# Altium footprint library PcbLib.PcbLib: 67 footprints (part 1 of 5)
Each footprint in its own frame and in the unit in brackets; x right, y up, seen from the top. Pads: shape width x height; smd on the part's side, far side on the other; paste and mask are expansions set on the pad; w line width, h text height; cw(c..) or ccw(c..) is an arc to the next point about the centre after c.
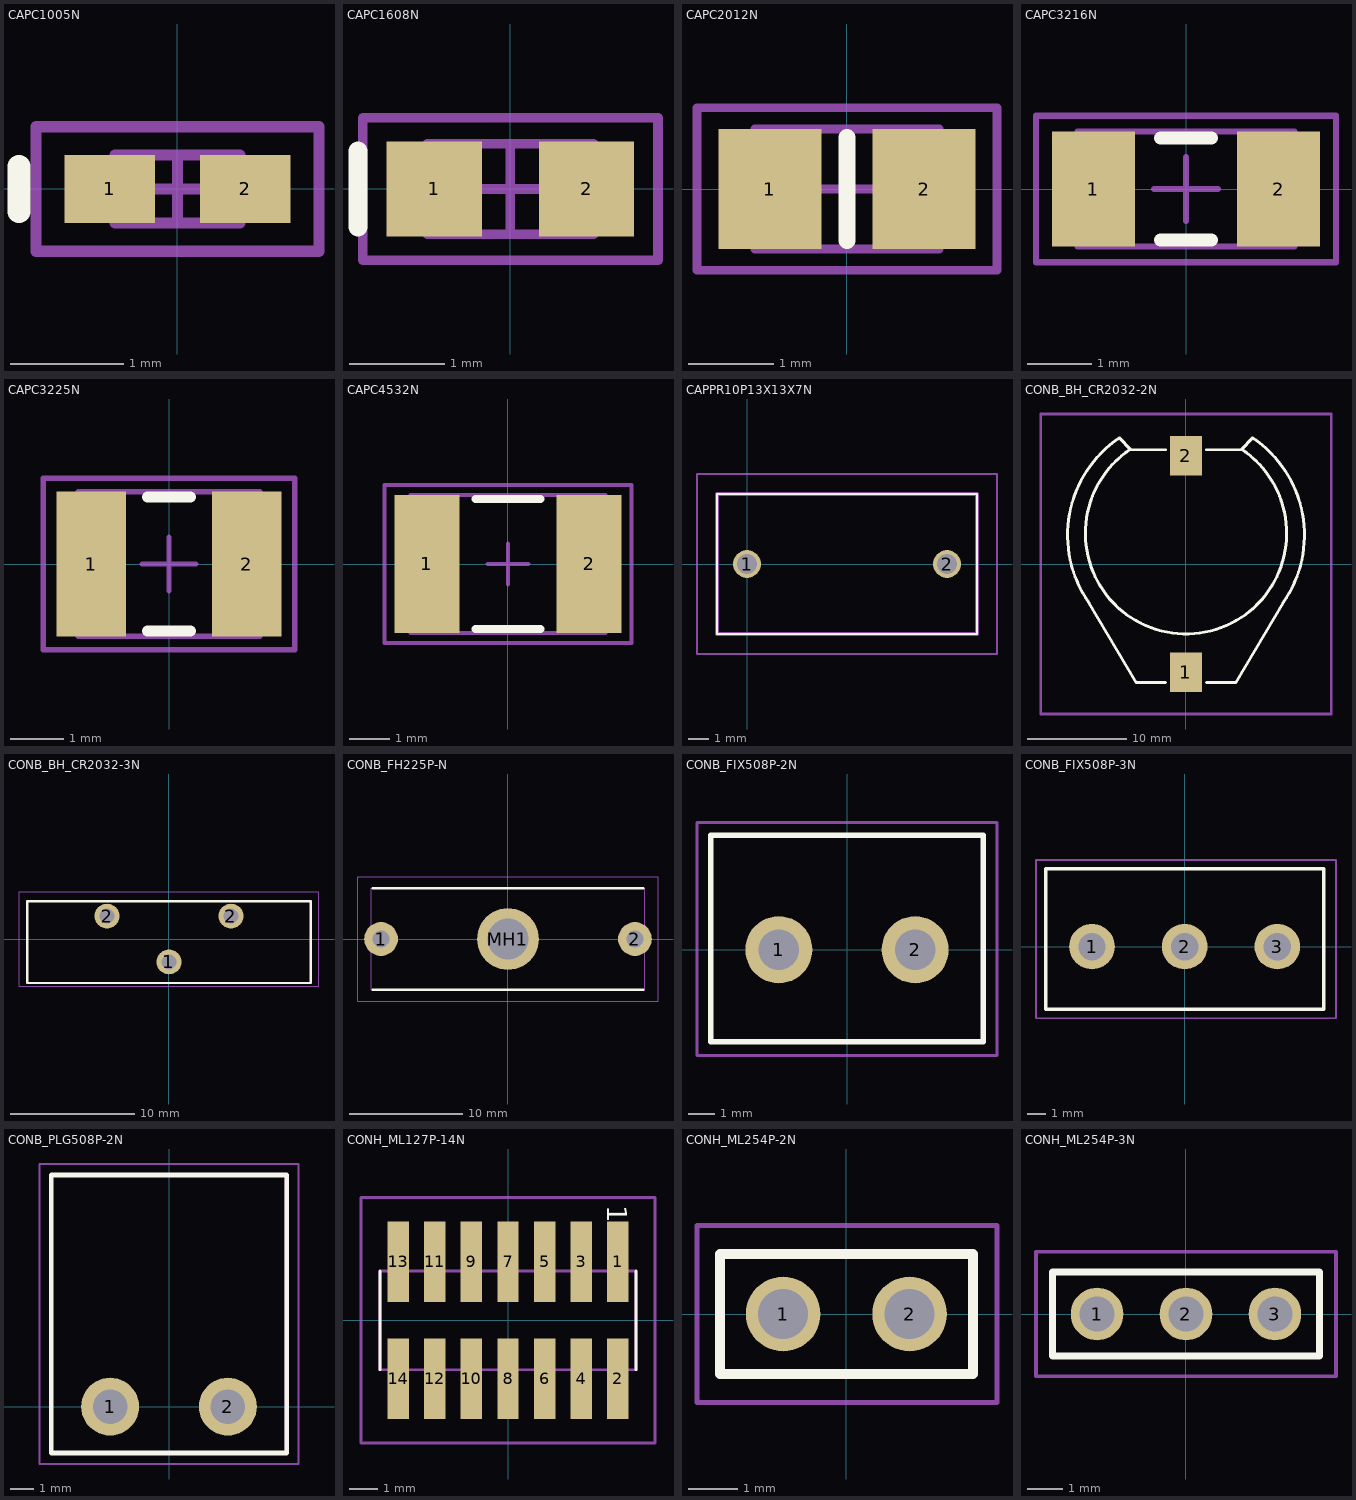
[diagram p0: the footprints below, top view; thin cyan lines are the x and y axes]

## CAPC1005N [mm] "Chip Capacitor, Body 1.0x0.5mm, IPC Medium Density"
height 0.6
pads (2):
  rect 0.8x0.6 smd: 1(-0.6,0) 2(0.6,0)
Top Overlay:
  lines w0.2: -1.4,-0.2 -1.4,0.2
Mechanical 13:
  lines w0.1: -0.55,-0.3 -0.55,0.3 0.55,0.3 0.55,-0.3 -0.55,-0.3
Mechanical 15:
  lines w0.1: -0.3,0 0.3,0 ; 0,-0.3 0,0.3 ; -1.25,-0.55 -1.25,0.55 1.25,0.55 1.25,-0.55 -1.25,-0.55
3D body "CAPC1005X55N EIA 0402.step": height 0.55, standoff 0, extent -0.5,-0.25 0.5,0.25

## CAPC1608N [mm] "Chip Capacitor, Body 1.6x0.8mm, IPC Medium Density"
height 0.85
pads (2):
  rect 1x1 smd: 1(-0.8,0) 2(0.8,0)
Top Overlay:
  lines w0.2: -1.6,-0.4 -1.6,0.4
Mechanical 13:
  lines w0.1: -0.875,-0.475 0.875,-0.475 0.875,0.475 -0.875,0.475 -0.875,-0.475
Mechanical 15:
  lines w0.1: -0.475,0 0.475,0 ; 0,-0.475 0,0.475 ; -1.55,-0.75 1.55,-0.75 1.55,0.75 -1.55,0.75 -1.55,-0.75
3D body "CAPC1508X65N EIA 0603.step": height 0.65, standoff 0, extent -0.75,-0.4 0.75,0.4

## CAPC2012N [mm] "Chip Capacitor, Body 2.0x1.3mm, IPC Medium Density"
height 1.1
pads (2):
  rect 1.2x1.4 smd: 1(-0.9,0) 2(0.9,0)
Top Overlay:
  lines w0.2: 0,-0.6 0,0.6
Mechanical 13:
  lines w0.1: -1.075,-0.7 -1.075,0.7 1.075,0.7 1.075,-0.7 -1.075,-0.7
Mechanical 15:
  lines w0.1: -0.5,0 0.5,0 ; 0,-0.5 0,0.5 ; -1.75,-0.95 -1.75,0.95 1.75,0.95 1.75,-0.95 -1.75,-0.95
3D body "CAPC2012X70N EIA 0805.step": height 0.7, standoff 0, extent -1,-0.6 1,0.6

## CAPC3216N [mm] "Chip Capacitor, Body 3.2x1.6mm, IPC Medium Density"
height 1.35
pads (2):
  rect 1.3x1.8 smd: 1(-1.45,0) 2(1.45,0)
Top Overlay:
  lines w0.2: -0.4,-0.8 0.4,-0.8 ; -0.4,0.8 0.4,0.8
Mechanical 13:
  lines w0.1: -1.7,-0.9 -1.7,0.9 1.7,0.9 1.7,-0.9 -1.7,-0.9
Mechanical 15:
  lines w0.1: -0.5,0 0.5,0 ; 0,-0.5 0,0.5 ; -2.35,-1.15 -2.35,1.15 2.35,1.15 2.35,-1.15 -2.35,-1.15
3D body "CAPC3215X168N EIA 1206.step": height 1.68, standoff 0, extent -1.6,-0.75 1.6,0.75

## CAPC3225N [mm] "Chip Capacitor, Body 3.2x2.5mm, IPC Medium Density"
height 1.35
pads (2):
  rect 1.3x2.7 smd: 1(-1.45,0) 2(1.45,0)
Top Overlay:
  lines w0.2: -0.4,-1.25 0.4,-1.25 ; -0.4,1.25 0.4,1.25
Mechanical 13:
  lines w0.1: -1.7,-1.35 1.7,-1.35 1.7,1.35 -1.7,1.35 -1.7,-1.35
Mechanical 15:
  lines w0.1: -0.5,0 0.5,0 ; 0,-0.5 0,0.5 ; -2.35,-1.6 2.35,-1.6 2.35,1.6 -2.35,1.6 -2.35,-1.6
3D body "CAPC3225X88N EIA 1210.step": height 0.88, standoff 0, extent -1.6,-1.25 1.6,1.25

## CAPC4532N [mm] "Chip Capacitor, Body 4.5x3.2mm, IPC Medium Density"
height 1.35
pads (2):
  rect 1.6x3.4 smd: 1(-2,0) 2(2,0)
Top Overlay:
  lines w0.2: -0.8,-1.6 0.8,-1.6 ; -0.8,1.6 0.8,1.6
Mechanical 13:
  lines w0.1: -2.4,-1.7 -2.4,1.7 2.4,1.7 2.4,-1.7 -2.4,-1.7
Mechanical 15:
  lines w0.1: -0.5,0 0.5,0 ; 0,-0.5 0,0.5 ; -3.05,-1.95 -3.05,1.95 3.05,1.95 3.05,-1.95 -3.05,-1.95
3D body "CAPC4532X102N EIA 1812.step": height 1.02, standoff 0, extent -2.25,-1.6 2.25,1.6

## CAPPR10P13X13X7N [mm] "Radial Leaded Capacitor, pitch 10mm, Box Type"
height 13
pads (2):
  round 1.4 hole 1: 1(0,0) 2(10,0)
Top Overlay:
  lines w0.1: -1.5,-3.5 -1.5,3.5 11.5,3.5 11.5,-3.5 -1.5,-3.5
Mechanical 13:
  lines w0.2: -1.5,-3.5 -1.5,3.5 11.5,3.5 11.5,-3.5 -1.5,-3.5
Mechanical 15:
  lines w0.1: -2.5,-4.5 -2.5,4.5 12.5,4.5 12.5,-4.5 -2.5,-4.5
3D body "890324023023CS.stp": height 13.06, standoff -3.94, extent -1.44,-3.5 11.56,3.5

## CONB_BH_CR2032-2N [mm]
pads (2):
  rect 3.17x3.96 smd: 1(0,-10.88) 2(0,10.88)
Top Overlay:
  lines w0.3: -9.76,-3.881 cw(c-0.094,2.887) -6.693,12.67 ; -9.75,-3.887 -5,-11.917 -2.075,-11.917 ; -6.693,12.67 -5.55,11.473 -2.05,11.473 ; -5.653,11.47 ccw(c0,3.088) 5.653,11.47 ; 2.05,11.473 5.55,11.473 6.693,12.67 cw(c0.094,2.887) 9.76,-3.881 ; 2.075,-11.917 5,-11.917 9.75,-3.887
Mechanical 15:
  lines w0.254: -14.6,-15.062 14.6,-15.062 14.6,15.062 -14.6,15.062 -14.6,-15.062
3D body "Bateria_CR2032-Part.step": height 6, standoff 3, extent -10.381,-7.078 9.616,12.918
3D body "1061.stp": height 7.37, standoff 0, extent -11.373,-12.852 11.373,12.799

## CONB_BH_CR2032-3N [mm]
pads (3):
  round 2 hole 1.2: 1(0,-1.85) 2(-5,1.85) 2(5,1.85)
Top Overlay:
  lines w0.2: -11.45,-3.55 11.45,-3.55 11.45,3.05 -11.45,3.05 -11.45,-3.55
Mechanical 13:
  lines w0.1: -11.45,-3.55 -11.45,3.05 11.45,3.05 11.45,-3.55 -11.45,-3.55
Mechanical 15:
  lines w0.1: -12.1,-3.8 12.1,-3.8 12.1,3.8 -12.1,3.8 -12.1,-3.8
3D body "1074.stp": height 25, standoff -2.45, extent -11.5,-3.1 11.497,3

## CONB_FH225P-N [mm] "Fuse Holder 20x5mm fuse, 22.5mm pitch"
height 12
pads (3):
  round 3 hole 1.5: 1(-11.25,0) 2(11.25,0)
  round 5.475 hole 3.65: MH1(0,0)
Top Overlay:
  lines w0.2: -12,-4.495 12,-4.495 ; -12,4.495 12,4.495
Mechanical 13:
  lines w0.1: -12.105,-4.495 -12.105,4.495 12.105,4.495 12.105,-4.495 -12.105,-4.495
Mechanical 15:
  lines w0.1: -13.292,-5.495 -13.292,5.495 13.293,5.495 13.293,-5.495 -13.292,-5.495
3D body "4628.stp": height 11.95, standoff -4, extent -12.105,-4.495 12.105,4.495

## CONB_FIX508P-2N [mm] "Pluggable Terminal Blocks, 2pos, pitch 5.08mm"
height 13
pads (2):
  round 2.5 hole 1.5 mask+0.102: 1(-2.54,0) 2(2.54,0)
Top Overlay:
  lines w0.2: -5.08,-3.429 5.08,-3.429 5.08,4.271 -5.08,4.271 -5.08,-3.429
Mechanical 13:
  lines w0.1: -5.08,-3.429 5.08,-3.429 5.08,4.271 -5.08,4.271 -5.08,-3.429
Mechanical 15:
  lines w0.1: -5.588,-3.941 5.588,-3.941 5.588,4.741 -5.588,4.741 -5.588,-3.941
3D body "Screw-Terminal-P5.08.step": height 10, standoff -4, extent -5.502,-3.45 4.998,4.35

## CONB_FIX508P-3N [mm] "Pluggable Terminal Blocks, 3pos, pitch 5.08mm"
height 13
pads (3):
  round 2.5 hole 1.5 mask+0.102: 1(-5.08,0) 2(0,0) 3(5.08,0)
Top Overlay:
  lines w0.2: -7.62,-3.429 7.62,-3.429 7.62,4.271 -7.62,4.271 -7.62,-3.429
Mechanical 13:
  lines w0.1: -7.62,-3.429 7.62,-3.429 7.62,4.271 -7.62,4.271 -7.62,-3.429
Mechanical 15:
  lines w0.1: -8.15,4.75 8.295,4.75 ; -8.15,4.757 -8.15,-3.925 8.295,-3.925 ; 8.295,-3.925 8.295,4.757
3D body "Screw-Terminal-P5.08_3_Pin.step": height 10, standoff -4, extent -8.12,-3.45 7.46,4.35

## CONB_PLG508P-2N [mm] "Pluggable Terminal Blocks, 2pos, pitch 5.08mm"
height 8.57
pads (2):
  round 2.5 hole 1.5: 1(-2.54,0) 2(2.54,0)
Top Overlay:
  lines w0.2: -5.08,-2 5.08,-2 5.08,10 -5.08,10 -5.08,-2
Mechanical 13:
  lines w0.1: -5.125,-2 -5.125,10 5.035,10 5.035,-2 -5.125,-2
Mechanical 15:
  lines w0.1: -5.588,-2.477 5.588,-2.477 5.588,10.477 -5.588,10.477 -5.588,-2.477
3D body "1759017.stp": height 8.6, standoff -3.5, extent -5.06,-2.002 5.1,10

## CONH_ML127P-14N [mm]
pads (14):
  rect 0.74x2.79 smd: 1(3.81,2.035) 2(3.81,-2.035) 3(2.54,2.035) 4(2.54,-2.035) 5(1.27,2.035) 6(1.27,-2.035) 7(0,2.035) 8(0,-2.035) 9(-1.27,2.035) 10(-1.27,-2.035) 11(-2.54,2.035) 12(-2.54,-2.035) 13(-3.81,2.035) 14(-3.81,-2.035)
Top Overlay:
  lines w0.1: -4.445,-1.715 -4.445,1.715 ; 4.445,-1.715 4.445,1.715
  text "1" at 3.452,3.998 h0.7
Mechanical 13:
  lines w0.1: -4.445,-1.715 4.445,-1.715 4.445,1.715 -4.445,1.715 -4.445,-1.715
Mechanical 15:
  lines w0.1: -5.1,-4.262 5.1,-4.262 5.1,4.263 -5.1,4.263 -5.1,-4.262
3D body "FTSH-107-01-F-DV-K.stp": height 6.12, standoff 0, extent -4.445,-2.921 4.445,2.921

## CONH_ML254P-2N [mm] "Vertical male header, 2 pos, 2.54mm pitch"
height 6
pads (2):
  round 1.5 hole 1: 1(-1.27,0) 2(1.27,0)
Top Overlay:
  lines w0.2: -2.54,-1.205 2.54,-1.205 2.54,1.205 -2.54,1.205 -2.54,-1.205
Mechanical 13:
  lines w0.1: -2.54,-1.205 2.54,-1.205 2.54,1.205 -2.54,1.205 -2.54,-1.205
Mechanical 15:
  lines w0.1: -3,-1.778 -3,1.778 3.025,1.778 3.025,-1.778 -3,-1.778
3D body "2-Pin Header - Male - 2.54mm.step": height 8.89, standoff -3.05, extent -2.54,-1.27 2.54,1.27

## CONH_ML254P-3N [mm] "Vertical male header, 3 pos, 2.54mm pitch"
height 6
pads (3):
  round 1.5 hole 1: 1(-2.54,0) 2(0,0) 3(2.54,0)
Top Overlay:
  lines w0.2: -3.81,-1.205 3.81,-1.205 3.81,1.205 -3.81,1.205 -3.81,-1.205
Mechanical 13:
  lines w0.1: -3.81,-1.205 3.81,-1.205 3.81,1.205 -3.81,1.205 -3.81,-1.205
Mechanical 15:
  lines w0.1: -4.282,-1.778 -4.282,1.778 4.283,1.778 4.283,-1.778 -4.282,-1.778
3D body "3-Pin Header - Male - 2.54mm.step": height 8.89, standoff -3.05, extent -3.81,-1.27 3.81,1.27